# EAGLE library part MCP4562T-104E/MF (library edrtech_lib)
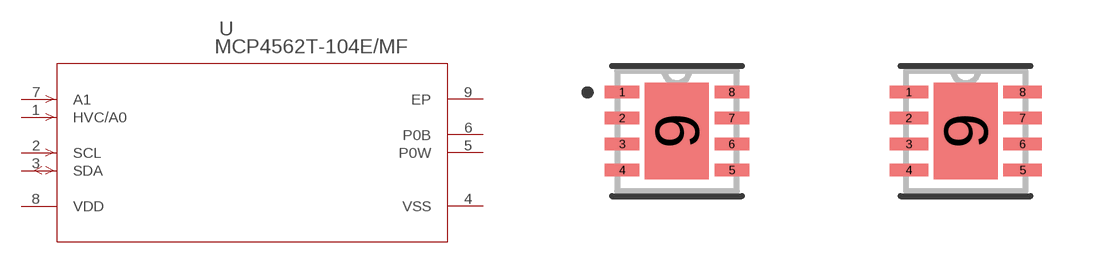
[diagram p55: symbol with the pads of DFN8_3X3MC_MCH; footprints DFN8_3X3MC_MCH, DFN8_3X3MC_MCH-M]

Designator prefix U

## MCP4562T-104E/MF (COPYRIGHT: Copyright (C) 2024 Ultra Librarian. All rights reserved.; MANUFACTURER_PART_NUMBER: MCP4562T-104E/MF; MFR_NAME: Microchip)  [DFN8_3X3MC_MCH]
1  HVC/A0  in
2  SCL  in
3  SDA
4  VSS  pwr
5  P0W  pas
6  P0B  pas
7  A1  in
8  VDD  pwr
9  EP  pas

## MCP4562T-104E/MFDFN8_3X3MC_MCH-M (COPYRIGHT: Copyright (C) 2024 Ultra Librarian. All rights reserved.; MANUFACTURER_PART_NUMBER: MCP4562T-104E/MF; MFR_NAME: Microchip)  [DFN8_3X3MC_MCH-M]
Pads as for DFN8_3X3MC_MCH

## MCP4562T-104E/MFDFN8_3X3MC_MCH-L (COPYRIGHT: Copyright (C) 2024 Ultra Librarian. All rights reserved.; MANUFACTURER_PART_NUMBER: MCP4562T-104E/MF; MFR_NAME: Microchip)  [DFN8_3X3MC_MCH-L]
Pads as for DFN8_3X3MC_MCH

## Footprint DFN8_3X3MC_MCH (pad centres in mm)
smd 0.864 x 0.305: 1 -1.372,0.975; 2 -1.372,0.325; 3 -1.372,-0.325; 4 -1.372,-0.975; 5 1.372,-0.975; 6 1.372,-0.325; 7 1.372,0.325; 8 1.372,0.975
smd 1.6 x 2.413: 9 0,0

## Footprint DFN8_3X3MC_MCH-M (pad centres in mm)
smd 0.965 x 0.305: 1 -1.422,0.975; 2 -1.422,0.325; 3 -1.422,-0.325; 4 -1.422,-0.975; 5 1.422,-0.975; 6 1.422,-0.325; 7 1.422,0.325; 8 1.422,0.975
smd 1.6 x 2.413: 9 0,0

## Footprint DFN8_3X3MC_MCH-L (pad centres in mm)
smd 0.762 x 0.305: 1 -1.321,0.975; 2 -1.321,0.325; 3 -1.321,-0.325; 4 -1.321,-0.975; 5 1.321,-0.975; 6 1.321,-0.325; 7 1.321,0.325; 8 1.321,0.975
smd 1.6 x 2.413: 9 0,0